# EAGLE library part CD74HC4051M96 (library boardLib)
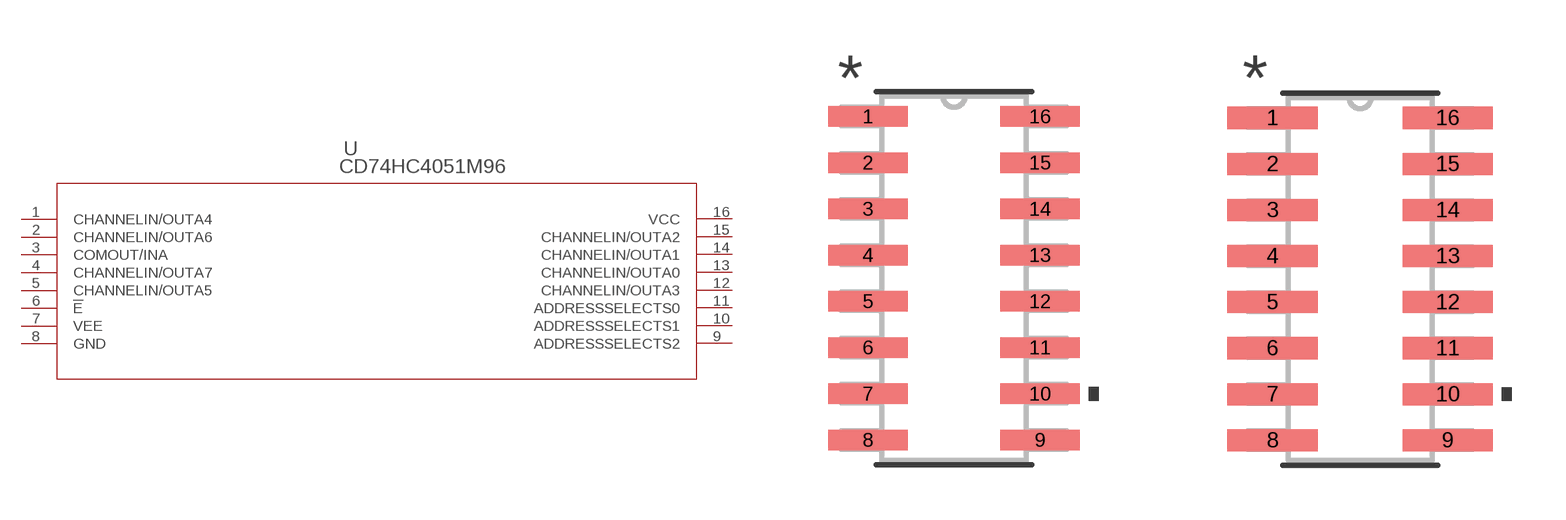
[diagram p1: symbol with the pads of D16; footprints D16, D16-M]

Designator prefix U

## CD74HC4051M96 (MANUFACTURER_PART_NUMBER: CD74HC4051M96; VENDOR: Texas Instruments)  [D16]
1  CHANNELIN/OUTA4
2  CHANNELIN/OUTA6
3  COMOUT/INA
4  CHANNELIN/OUTA7
5  CHANNELIN/OUTA5
6  !E  in
7  VEE  pwr
8  GND  pwr
9  ADDRESSSELECTS2  in
10  ADDRESSSELECTS1  in
11  ADDRESSSELECTS0  in
12  CHANNELIN/OUTA3
13  CHANNELIN/OUTA0
14  CHANNELIN/OUTA1
15  CHANNELIN/OUTA2
16  VCC  pwr

## CD74HC4051M96D16-M (MANUFACTURER_PART_NUMBER: CD74HC4051M96; VENDOR: Texas Instruments)  [D16-M]
Pads as for D16

## CD74HC4051M96D16-L (MANUFACTURER_PART_NUMBER: CD74HC4051M96; VENDOR: Texas Instruments)  [D16-L]
Pads as for D16

## Footprint D16 (pad centres in mm)
smd 2.184 x 0.559: 1 -2.362,4.445; 2 -2.362,3.175; 3 -2.362,1.905; 4 -2.362,0.635; 5 -2.362,-0.635; 6 -2.362,-1.905; 7 -2.362,-3.175; 8 -2.362,-4.445; 9 2.362,-4.445; 10 2.362,-3.175; 11 2.362,-1.905; 12 2.362,-0.635; 13 2.362,0.635; 14 2.362,1.905; 15 2.362,3.175; 16 2.362,4.445

## Footprint D16-M (pad centres in mm)
smd 2.489 x 0.61: 1 -2.413,4.445; 2 -2.413,3.175; 3 -2.413,1.905; 4 -2.413,0.635; 5 -2.413,-0.635; 6 -2.413,-1.905; 7 -2.413,-3.175; 8 -2.413,-4.445; 9 2.413,-4.445; 10 2.413,-3.175; 11 2.413,-1.905; 12 2.413,-0.635; 13 2.413,0.635; 14 2.413,1.905; 15 2.413,3.175; 16 2.413,4.445

## Footprint D16-L (pad centres in mm)
smd 1.88 x 0.508: 1 -2.311,4.445; 2 -2.311,3.175; 3 -2.311,1.905; 4 -2.311,0.635; 5 -2.311,-0.635; 6 -2.311,-1.905; 7 -2.311,-3.175; 8 -2.311,-4.445; 9 2.311,-4.445; 10 2.311,-3.175; 11 2.311,-1.905; 12 2.311,-0.635; 13 2.311,0.635; 14 2.311,1.905; 15 2.311,3.175; 16 2.311,4.445